# EAGLE library part RASPI-P1 (library Gyros)
Raspberry Pi Board <http://www.raspberrypi.org/> Jacques Lagnel V1.0 (beta) 2012 Mateusz Bawaj V1.1 (beta) 2012 Board dimension: Forum 3D model <http://www.raspberrypi.org/forum/general-discussion/mechanical-profile-3d-models?value=3d%20model&type=1&include=1&search=1&ret=all> The GPIO Connector (P1): http://elinux.org/RPi_Low-level_peripherals The GPIO Connector (P5): http://www.raspberrypi-spy.co.uk/2012/09/raspberry-pi-p5-header/
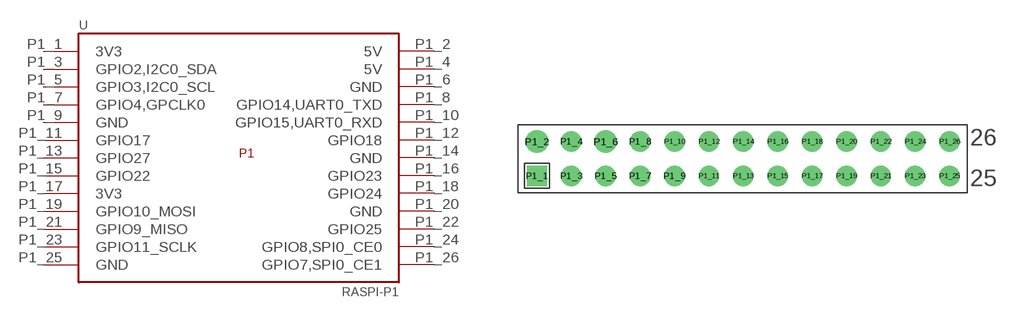
[diagram p26: symbol with the pads of RASPBERRY-PI_REV2; footprint RASPBERRY-PI_REV2]

Designator prefix -

## RASPI-P1RASPI_REV2_P1  [RASPBERRY-PI_REV2]
P1_1  3V3
P1_2  5V
P1_3  GPIO2,I2C0_SDA
P1_4  5V
P1_5  GPIO3,I2C0_SCL
P1_6  GND
P1_7  GPIO4,GPCLK0
P1_8  GPIO14,UART0_TXD
P1_9  GND
P1_10  GPIO15,UART0_RXD
P1_11  GPIO17
P1_12  GPIO18
P1_13  GPIO27
P1_14  GND
P1_15  GPIO22
P1_16  GPIO23
P1_17  3V3
P1_18  GPIO24
P1_19  GPIO10_MOSI
P1_20  GND
P1_21  GPIO9_MISO
P1_22  GPIO25
P1_23  GPIO11_SCLK
P1_24  GPIO8,SPI0_CE0
P1_25  GND
P1_26  GPIO7,SPI0_CE1

## Footprint RASPBERRY-PI_REV2 (pad centres in mm)
drill 1 square: P1_1 -31.75,1.27
drill 1 pad 1.676: P1_2 -31.75,3.81; P1_6 -26.67,3.81
drill 1: P1_3 -29.21,1.27; P1_4 -29.21,3.81; P1_5 -26.67,1.27; P1_7 -24.13,1.27; P1_8 -24.13,3.81; P1_9 -21.59,1.27; P1_10 -21.59,3.81; P1_11 -19.05,1.27; P1_12 -19.05,3.81; P1_13 -16.51,1.27; P1_14 -16.51,3.81; P1_15 -13.97,1.27; P1_16 -13.97,3.81; P1_17 -11.43,1.27; P1_18 -11.43,3.81; P1_19 -8.89,1.27; P1_20 -8.89,3.81; P1_21 -6.35,1.27; P1_22 -6.35,3.81; P1_23 -3.81,1.27; P1_24 -3.81,3.81; P1_25 -1.27,1.27; P1_26 -1.27,3.81